# EAGLE library part DDC232 (library texas-DAS)
32-Channel, Current-Input Analog-to-Digital Converter Description: The DDC232 is a 20-bit, 32-channel, current-input analog-to-digital (A/D) converter. It combines both current-to-voltage and A/D conversion so that 32 separate low-level current output devices, such as photodiodes, can be directly connected to its inputs and digitized. For each of the 32 inputs, the DDC232 provides a dual-switched integrator front-end. This configuration allows for continuous current integration: while one integrator is being digitized by the onboard A/D converter, the other is integrating the input current. Adjustable integration times range from 166ms to 1s, allowing currents from fAs to mAs to be continuously measured with outstanding precision. The DDC232 has a serial interface designed for daisy-chaining in multi-device systems. Simply connect the output of one device to the input of the next to create the chain. Common clocking feeds all the devices in the chain so that the digital overhead in a multi-DDC232 system is minimal. Features: SINGLE-CHIP SOLUTION TO DIRECTLY MEASURE EIGHT LOW-LEVEL CURRENTS HIGH PRECISION, TRUE INTEGRATING FUNCTION INTEGRAL LINEARITY: ± 0.01% of Reading ± 0.5ppm of FSR VERY LOW NOISE: 5.2ppm of FSR LOW POWER: 13.5mW/channel ADJUSTABLE DATA RATE: Up to 3.125kSPS PROGRAMMABLE FULL SCALE DAISY-CHAINABLE SERIAL INTERFACE Datasheet: http://www.ti.com/lit/ds/symlink/ddc232.pdf Additional information: Basics of operation can be found in the DDC112 datasheet: http://www.ti.com/lit/ds/symlink/ddc112.pdf For practical daisychaining and layout considerations, consider the DDC112 evaluation board documentation: http://www.ti.com/lit/an/sbaa029/sbaa029.pdf
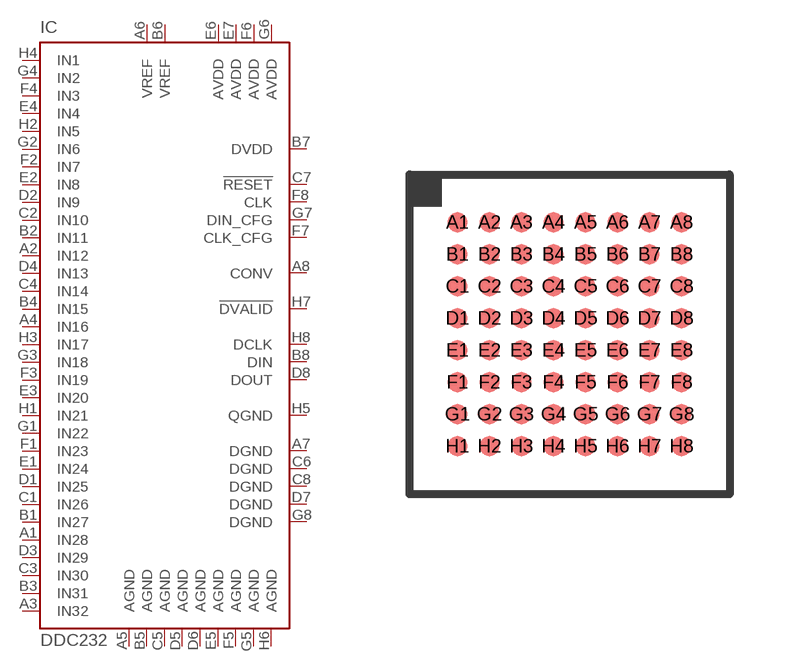
[diagram p0: symbol with the pads of PBGA-N64; footprint PBGA-N64]

Designator prefix IC

## DDC232 (MPN: DDC232CGXGR; OC_FARNELL: unknown; OC_NEWARK: 18M7216)  [PBGA-N64]
A1  IN28  in
A2  IN12  in
A3  IN32  in
A4  IN16  in
A5  AGND  pwr
A6  VREF  pas
A7  DGND  pwr
A8  CONV  in
B1  IN27  in
B2  IN11  in
B3  IN31  in
B4  IN15  in
B5  AGND  pwr
B6  VREF  pas
B7  DVDD  pwr
B8  DIN  in
C1  IN26  in
C2  IN10  in
C3  IN30  in
C4  IN14  in
C5  AGND  pwr
C6  DGND  pwr
C7  !RESET  in
C8  DGND  pwr
D1  IN25  in
D2  IN9  in
D3  IN29  in
D4  IN13  in
D5  AGND  pwr
D6  AGND  pwr
D7  DGND  pwr
D8  DOUT  out
E1  IN24  in
E2  IN8  in
E3  IN20  in
E4  IN4  in
E5  AGND  pwr
E6  AVDD  pwr
E7  AVDD  pwr
F1  IN23  in
F2  IN7  in
F3  IN19  in
F4  IN3  in
F5  AGND  pwr
F6  AVDD  pwr
F7  CLK_CFG  in
F8  CLK  in
G1  IN22  in
G2  IN6  in
G3  IN18  in
G4  IN2  in
G5  AGND  pwr
G6  AVDD  pwr
G7  DIN_CFG  in
G8  DGND  pwr
H1  IN21  in
H2  IN5  in
H3  IN17  in
H4  IN1  in
H5  QGND  pwr
H6  AGND  pwr
H7  !DVALID  out
H8  DCLK  in

## Footprint PBGA-N64 (pad centres in mm)
GXG (S-PBGA-N64 Source: http://focus.ti.com/lit/ds/symlink/ddc232.pdf
smd 0.5 x 0.5: A1 -2.8,2.8; A2 -2,2.8; A3 -1.2,2.8; A4 -0.4,2.8; A5 0.4,2.8; A6 1.2,2.8; A7 2,2.8; A8 2.8,2.8; B1 -2.8,2; B2 -2,2; B3 -1.2,2; B4 -0.4,2; B5 0.4,2; B6 1.2,2; B7 2,2; B8 2.8,2; C1 -2.8,1.2; C2 -2,1.2; C3 -1.2,1.2; C4 -0.4,1.2; C5 0.4,1.2; C6 1.2,1.2; C7 2,1.2; C8 2.8,1.2; D1 -2.8,0.4; D2 -2,0.4; D3 -1.2,0.4; D4 -0.4,0.4; D5 0.4,0.4; D6 1.2,0.4; D7 2,0.4; D8 2.8,0.4; E1 -2.8,-0.4; E2 -2,-0.4; E3 -1.2,-0.4; E4 -0.4,-0.4; E5 0.4,-0.4; E6 1.2,-0.4; E7 2,-0.4; E8 2.8,-0.4; F1 -2.8,-1.2; F2 -2,-1.2; F3 -1.2,-1.2; F4 -0.4,-1.2; F5 0.4,-1.2; F6 1.2,-1.2; F7 2,-1.2; F8 2.8,-1.2; G1 -2.8,-2; G2 -2,-2; G3 -1.2,-2; G4 -0.4,-2; G5 0.4,-2; G6 1.2,-2; G7 2,-2; G8 2.8,-2; H1 -2.8,-2.8; H2 -2,-2.8; H3 -1.2,-2.8; H4 -0.4,-2.8; H5 0.4,-2.8; H6 1.2,-2.8; H7 2,-2.8; H8 2.8,-2.8